# Altium footprint library PCB - LEADED - SOIC - ALPHAOMEGA SO8 SOP-8L.PcbLib: 1 footprints
Each footprint in its own frame and in the unit in brackets; x right, y up, seen from the top. Pads: shape width x height; smd on the part's side, far side on the other; paste and mask are expansions set on the pad; w line width, h text height; cw(c..) or ccw(c..) is an arc to the next point about the centre after c.
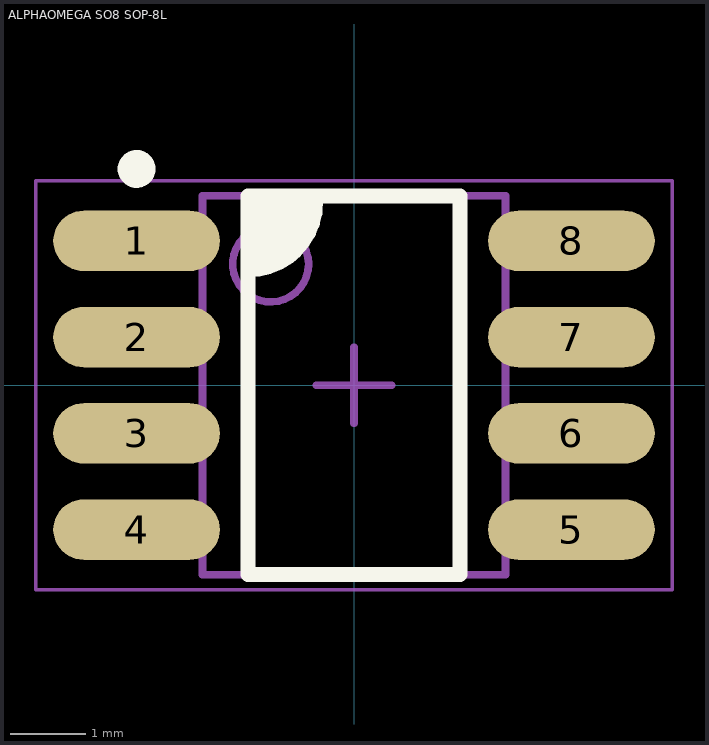
[diagram p0: the footprint, top view; thin cyan lines are the x and y axes]

## ALPHAOMEGA SO8 SOP-8L [mm] "SOIC, 8-Leads, Body 4.90x3.90mm, Pitch 1.27mm, IPC Medium Density"
height 1.75
pads (8):
  oval 2.2x0.8 smd: 1(-2.87,1.905) 2(-2.87,0.635) 3(-2.87,-0.635) 4(-2.87,-1.905) 5(2.87,-1.905) 6(2.87,-0.635) 7(2.87,0.635) 8(2.87,1.905)
Top Overlay:
  circle w0.25: c-2.87,2.855 r0.125
  region: -1.397,2.413 -0.508,2.413 -0.508,2.325 -0.542,2.154 -0.609,1.992 -0.706,1.846 -0.83,1.722 -0.976,1.625 -1.138,1.558 -1.309,1.524 -1.397,1.524
  lines w0.2: -1.397,1.524 ccw(c-1.397,2.413) -0.508,2.413 ; -1.397,-2.5 1.397,-2.5 1.397,2.5 -1.397,2.5 -1.397,-2.5
Mechanical 13:
  circle w0.1: c-1.1,1.6 r0.5
  lines w0.1: -2,-2.5 2,-2.5 2,2.5 -2,2.5 -2,-2.5
Mechanical 15:
  lines w0.05: -4.2,-2.7 4.2,-2.7 4.2,2.7 -4.2,2.7 -4.2,-2.7
Mechanical 2 (Mech9):
  lines w0.1: -0.5,0 0.5,0 ; 0,-0.5 0,0.5
3D body "ALPHAOMEGA SO8 SOP-8L.step": height 1.75, standoff 0, extent -3,-2.5 3,2.5